# Altium footprint library PCB - CONNECTOR - WURTH - WURTH 691322110003.PcbLib: 1 footprints
Each footprint in its own frame and in the unit in brackets; x right, y up, seen from the top. Pads: shape width x height; smd on the part's side, far side on the other; paste and mask are expansions set on the pad; w line width, h text height; cw(c..) or ccw(c..) is an arc to the next point about the centre after c.
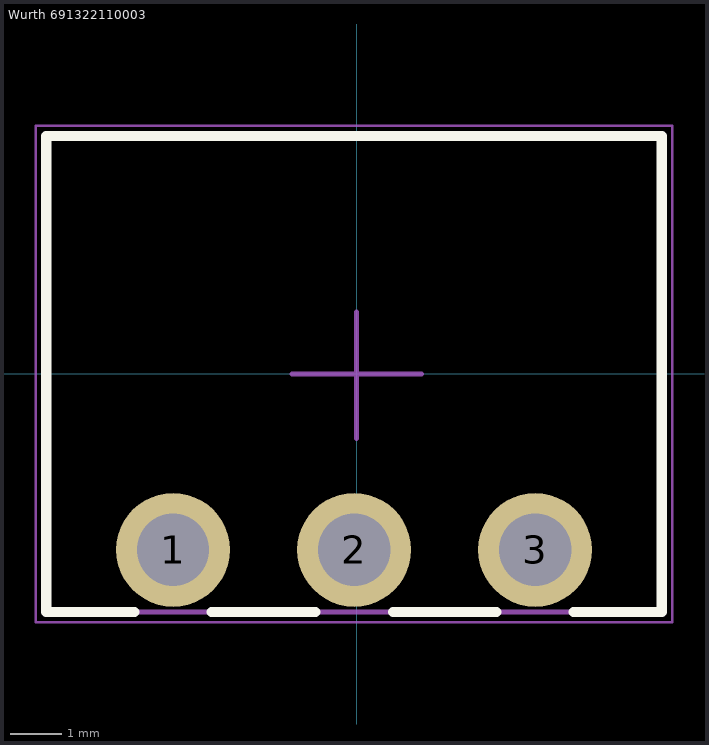
[diagram p0: the footprint, top view; thin cyan lines are the x and y axes]

## Wurth 691322110003 [mm] "3 Position Terminal Block Header, Male Pins, 3.5mm Pitch,11.9x9.2mm Body, 90°, Right Angle, THT"
height 7.4
pads (3):
  round 2.2 hole 1.4: 1(-3.547,-3.4) 2(-0.047,-3.4) 3(3.453,-3.4)
Top Overlay:
  lines w0.2: -6,4.6 -6,-4.6 -4.297,-4.6 ; -5.997,4.6 5.903,4.6 5.903,-4.6 4.203,-4.6 ; -2.8,-4.6 -0.8,-4.6 ; 0.705,-4.6 2.705,-4.6
Mechanical 13:
  lines w0.1: -6,-4.6 -6,4.6 5.903,4.6 5.903,-4.6 -6,-4.6
Mechanical 15 (Mech15):
  lines w0.05: -6.2,-4.8 -6.2,4.8 6.103,4.8 6.103,-4.8 -6.2,-4.8
  lines w0.1: -1.25,0 0,0 ; 0,-1.25 0,0 ; 0,1.2 0,0 ; 1.25,0 0,0
3D body "Würth Elektronik - 691322110003 v1.step": height 7.2, standoff -3.5, extent -5.997,-4.6 5.903,4.6